# Altium integrated library Mega2560Pro.IntLib: 1 symbol
Pins are listed as number, name and electrical type; pins without a type are passive.

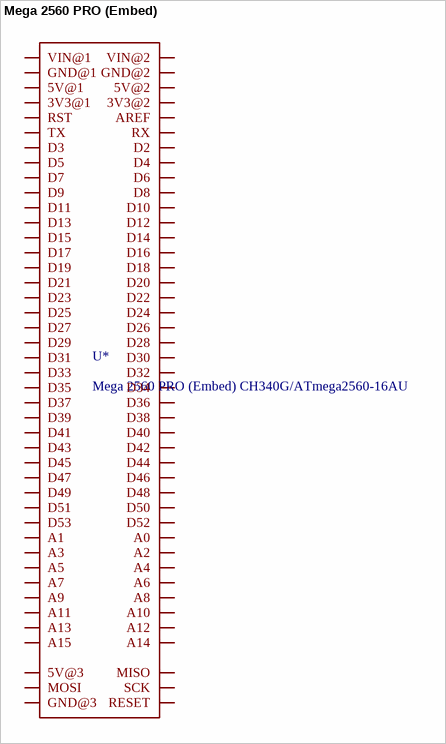
[diagram p0: symbol Mega 2560 PRO (Embed)]

## Mega 2560 PRO (Embed)
designator U*, comment Mega 2560 PRO (Embed) CH340G/ATmega2560-16AU
The Mega Pro Embed CH340G / ATmega2560 board is based on the ATmega2560 microcontroller and the USB-UART adapter CH340. The board is compatible with Arduino Mega 2560.
footprint Mega 2560 PRO (Embed)
pins: 3V3@1 (io), 3V3@2 (io), 5V@1 (io), 5V@2 (io), 5V@3 (io), A0 (io), A1 (io), A2 (io), A3 (io), A4 (io), A5 (io), A6 (io), A7 (io), A8 (io), A9 (io), A10 (io), A11 (io), A12 (io), A13 (io), A14 (io), A15 (io), AREF (io), D2 (io), D3 (io), D4 (io), D5 (io), D6 (io), D7 (io), D8 (io), D9 (io), D10 (io), D11 (io), D12 (io), D13 (io), D14 (io), D15 (io), D16 (io), D17 (io), D18 (io), D19 (io), D20 (io), D21 (io), D22 (io), D23 (io), D24 (io), D25 (io), D26 (io), D27 (io), D28 (io), D29 (io), D30 (io), D31 (io), D32 (io), D33 (io), D34 (io), D35 (io), D36 (io), D37 (io), D38 (io), D39 (io), D40 (io), D41 (io), D42 (io), D43 (io), D44 (io), D45 (io), D46 (io), D47 (io), D48 (io), D49 (io), D50 (io), D51 (io), D52 (io), D53 (io), GND@1 (io), GND@2 (io), GND@3 (io), MISO (io), MOSI (io), RESET (io), RST (io), RX (io), SCK (io), TX (io), VIN@1 (io), VIN@2 (io)